# Altium footprint library Battery.PcbLib: 1 footprints
Each footprint in its own frame and in the unit in brackets; x right, y up, seen from the top. Pads: shape width x height; smd on the part's side, far side on the other; paste and mask are expansions set on the pad; w line width, h text height; cw(c..) or ccw(c..) is an arc to the next point about the centre after c.
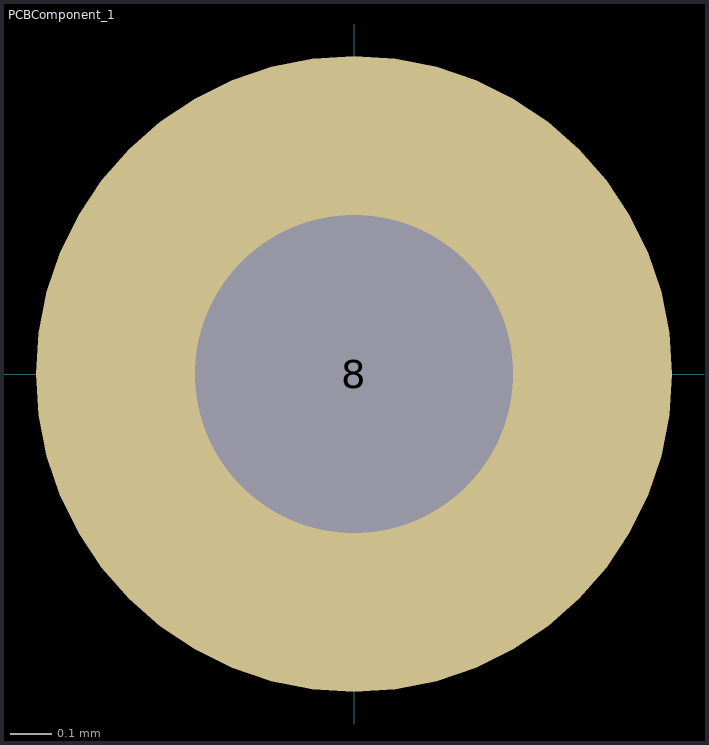
[diagram p0: the footprint, top view; thin cyan lines are the x and y axes]

## PCBComponent_1 [mil]
pads (1):
  round 60 hole 30: 8(0,0)
3D body "Коническая_пружина_для_контактов.STEP": height 409.08, standoff -157.48, extent -205.29,-201.9 212.07,208.67